# EAGLE library part MPU-6000 (library aspirin)
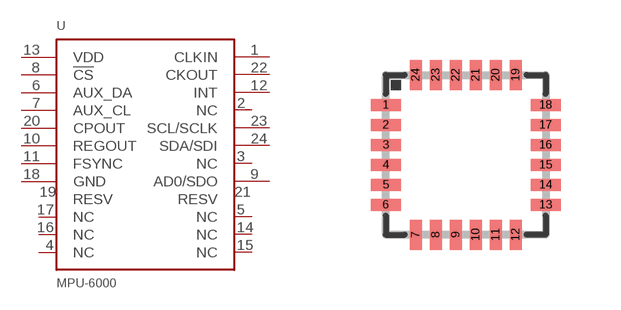
[diagram p6: symbol with the pads of QFN24-NO-PAD; footprint QFN24-NO-PAD]

Designator prefix -

## MPU-6000  [QFN24-NO-PAD]
1  CLKIN
2  NC
3  NC
4  NC
5  NC
6  AUX_DA
7  AUX_CL
8  !CS
9  AD0/SDO
10  REGOUT
11  FSYNC
12  INT
13  VDD
14  NC
15  NC
16  NC
17  NC
18  GND
19  RESV
20  CPOUT
21  RESV
22  CKOUT
23  SCL/SCLK
24  SDA/SDI

## Footprint QFN24-NO-PAD (pad centres in mm)
smd 0.75 x 0.3: 1 -2,1.25; 2 -2,0.75; 3 -2,0.25; 4 -2,-0.25; 5 -2,-0.75; 6 -2,-1.25; 13 2,-1.25; 14 2,-0.75; 15 2,-0.25; 16 2,0.25; 17 2,0.75; 18 2,1.25
smd 0.3 x 0.75: 7 -1.25,-2; 8 -0.75,-2; 9 -0.25,-2; 10 0.25,-2; 11 0.75,-2; 12 1.25,-2; 19 1.25,2; 20 0.75,2; 21 0.25,2; 22 -0.25,2; 23 -0.75,2; 24 -1.25,2